# EAGLE library part CA064CXXXXXRAC (library CPSS_MISC)
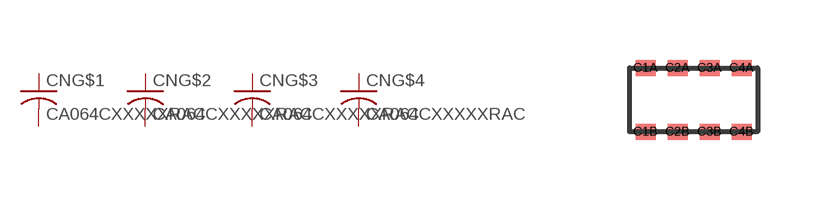
[diagram p1: symbol with the pads of CNET_4POS_0612; footprint CNET_4POS_0612]

Designator prefix CN; gates G$1=C-US G$2=C-US G$3=C-US G$4=C-US

## CA064CXXXXXRAC  [CNET_4POS_0612]
C1A  G$1:1  pas
C1B  G$1:2  pas
C2A  G$2:1  pas
C2B  G$2:2  pas
C3A  G$3:1  pas
C3B  G$3:2  pas
C4A  G$4:1  pas
C4B  G$4:2  pas

## Footprint CNET_4POS_0612 (pad centres in mm)
smd 0.5 x 0.4: C1A -1.2,0.8; C1B -1.2,-0.8; C2A -0.4,0.8; C2B -0.4,-0.8; C3A 0.4,0.8; C3B 0.4,-0.8; C4A 1.2,0.8; C4B 1.2,-0.8